# EAGLE library part MICRO-SD-FLIP (library NewSDR)
Micro-SD Flip Top Connector
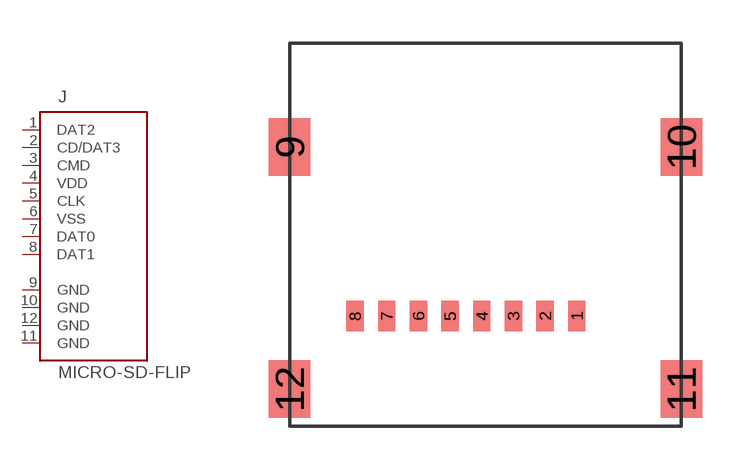
[diagram p200: symbol with the pads of MICRO-SD_FLIP_LID; footprint MICRO-SD_FLIP_LID]

Designator prefix J

## MICRO-SD-FLIP  [MICRO-SD_FLIP_LID]
1  DAT2
2  CD/DAT3
3  CMD
4  VDD  pwr
5  CLK  in
6  VSS  pwr
7  DAT0
8  DAT1
9  GND  pwr
10  GND  pwr
11  GND  pwr
12  GND  pwr

## Footprint MICRO-SD_FLIP_LID (pad centres in mm)
Micro SD Connector 8-Pin Flip Lid
smd 0.6 x 1.05: 1 3.17,-9.47; 2 2.07,-9.47; 3 0.97,-9.47; 4 -0.13,-9.47; 5 -1.23,-9.47; 6 -2.33,-9.47; 7 -3.43,-9.47; 8 -4.53,-9.47
smd 1.45 x 2: 9 -6.8,-3.6; 10 6.8,-3.6; 11 6.8,-12; 12 -6.8,-12